# Altium schematic symbol library 3V3LDO_TPS73633DBVR_SOT23-5.SchLib: 1 symbol
Pins are listed as number, name and electrical type; pins without a type are passive.

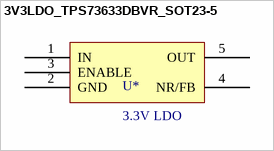
[diagram p0: symbol 3V3LDO_TPS73633DBVR_SOT23-5]

## 3V3LDO_TPS73633DBVR_SOT23-5
designator U*, comment 3.3V LDO
Linear Voltage Regulator IC Positive Fixed 1 Output 3.3V 400mA SOT-23-5
footprint SOT95P280X145-5N (SOT23, 5-Leads, Body 2.90x2.80mm, Pitch 0.95mm, IPC Medium Density)
pins: 1 IN (power), 2 GND (power), 3 ENABLE (power), 4 NR/FB (power), 5 OUT (power)